# Altium footprint library R_C_L_D.PcbLib: 51 footprints (part 2 of 4)
Each footprint in its own frame and in the unit in brackets; x right, y up, seen from the top. Pads: shape width x height; smd on the part's side, far side on the other; paste and mask are expansions set on the pad; w line width, h text height; cw(c..) or ccw(c..) is an arc to the next point about the centre after c.
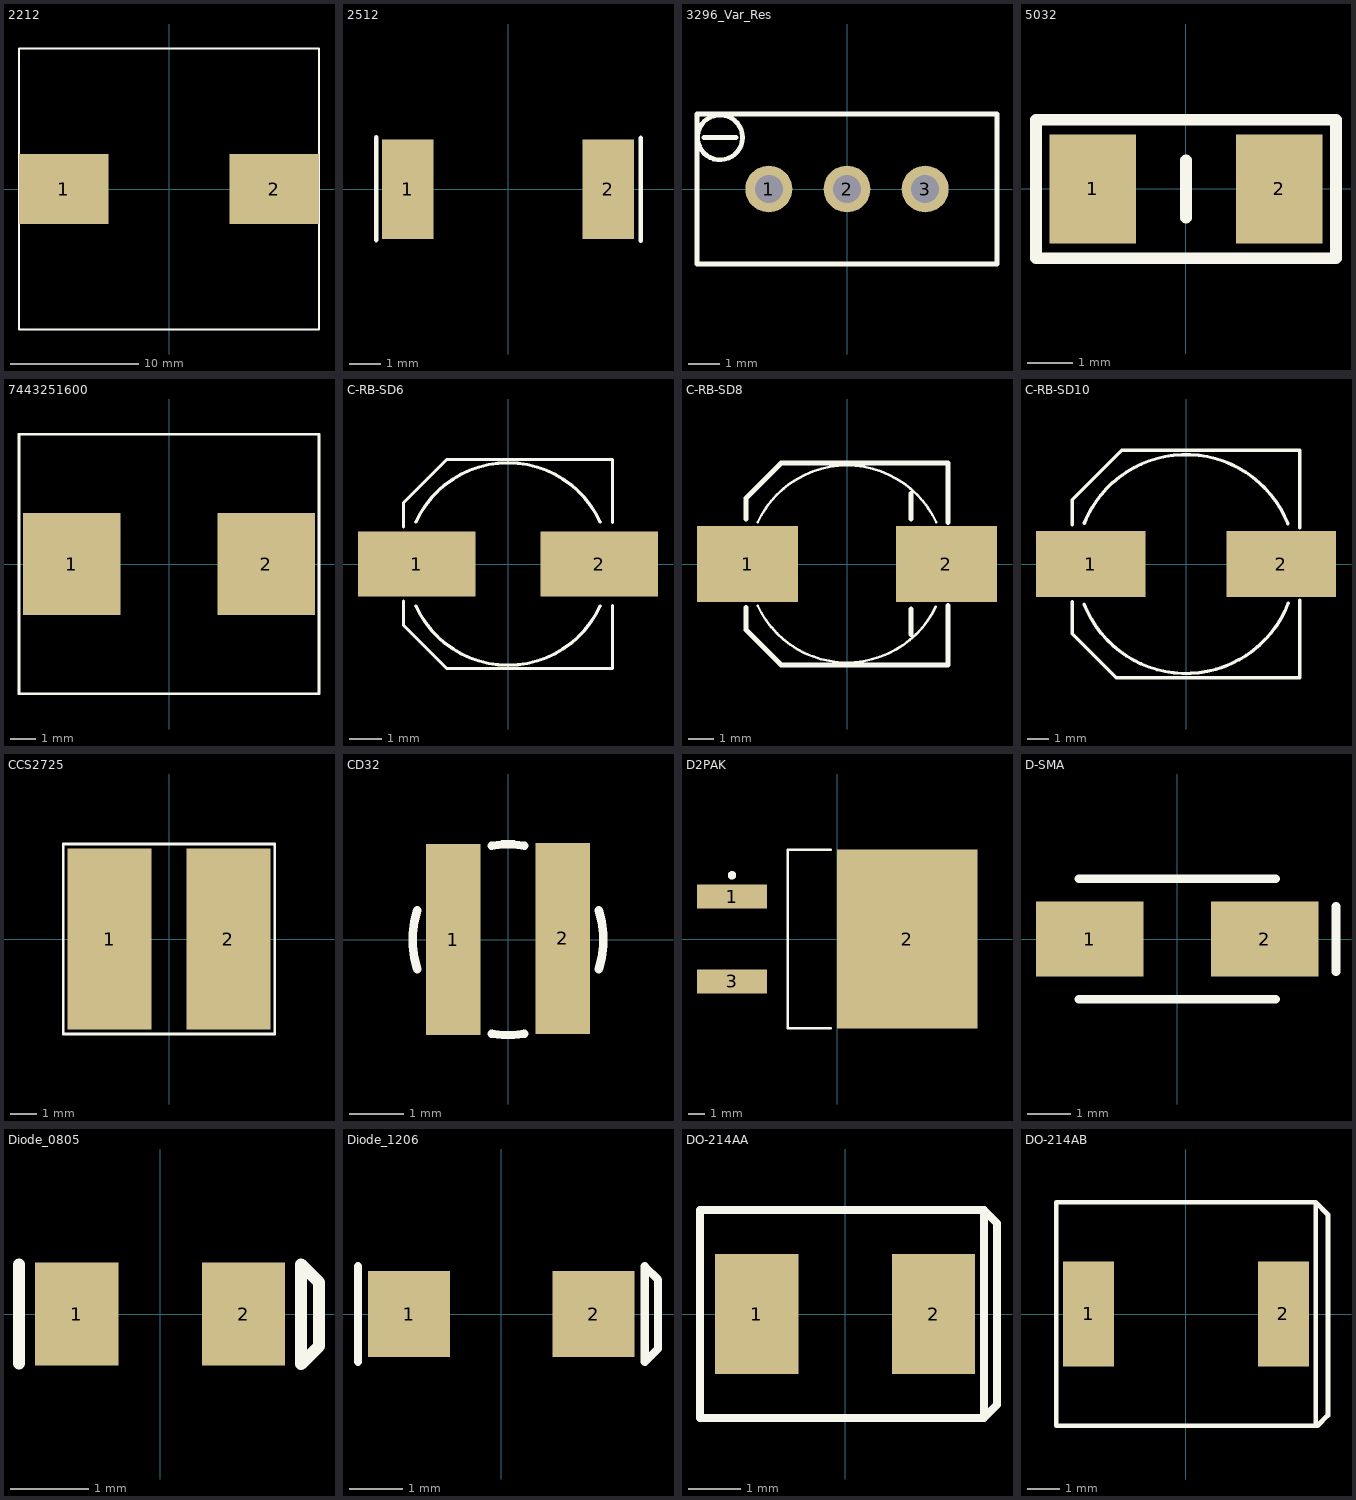
[diagram p1: the footprints below, top view; thin cyan lines are the x and y axes]

## 2212 [mm] "[22*22]mm"
pads (2):
  rect 7x5.5 smd: 1(-8.25,0) 2(8.25,0)
Top Overlay:
  lines w0.152: -11.75,-11 -11.75,11 11.75,11 11.75,-11 -11.75,-11

## 2512 [mil] "[8.13*3.2]mm"
pads (2):
  rect 65x126 smd: 1(-127,0) 2(127,0)
Top Overlay:
  lines w6: -167,-64 -167,66 ; 168,-65 168,65

## 3296_Var_Res [mm]
pads (3):
  round 1.5 hole 0.9: 1(-2.5,0) 2(0,0) 3(2.5,0)
Top Overlay:
  circle w0.152: c-4.064,1.651 r0.718
  lines w0.152: -4.572,1.651 -3.556,1.651 ; -4.8,-2.4 4.8,-2.4 4.8,2.4 -4.8,2.4 -4.8,-2.4

## 5032 [mm] "Crystal"
pads (2):
  rect 1.9x2.4 smd: 1(-2.05,0) 2(2.05,0)
Top Overlay:
  lines w0.254: 0,-0.635 0,0.635 ; -3.302,-1.524 3.302,-1.524 3.302,1.524 -3.302,1.524 -3.302,1.27 -3.302,-1.524

## 7443251600 [mm] "一体成型电感"
height 4
pads (2):
  rect 3.85x4 smd mask+0.07: 1(-3.825,0) 2(3.825,0)
Top Overlay:
  lines w0.102: -5.9,-5.1 -5.9,5.1 5.9,5.1 5.9,-5.1 -5.9,-5.1

## C-RB-SD6 [mm] "贴片铝电解"
height 7
pads (2):
  rect 3.6x2 smd: 1(-2.794,0) 2(2.794,0)
Top Overlay:
  lines w0.1: -3.2,-1.143 -3.2,-1.88 -1.88,-3.2 3.2,-3.2 3.2,-1.27 ; -3.2,1.143 -3.2,1.88 -1.88,3.2 3.2,3.2 3.2,1.27 ; -2.822,-1.283 ccw(c0,0) 2.822,-1.283 ; -2.822,1.283 cw(c0,0) 2.822,1.283

## C-RB-SD8 [mm] "贴片铝电解"
height 10.2
pads (2):
  rect 4x3 smd: 1(-3.937,0) 2(3.937,0)
Top Overlay:
  lines w0.1: -3.539,-1.643 ccw(c0,0) 3.516,-1.693 ; -3.539,1.643 cw(c0,0) 3.539,1.643
  lines w0.2: -4,-1.714 -4,-2.604 -2.604,-4 4,-4 4,-1.651 ; -4,1.778 -4,2.604 -2.604,4 4,4 4,1.651 ; 2.54,-2.794 2.54,-1.778 ; 2.54,1.778 2.54,2.794

## C-RB-SD10 [mm] "贴片铝电解"
height 10.2
pads (2):
  rect 5x3 smd: 1(-4.35,0) 2(4.35,0)
Top Overlay:
  lines w0.152: -5.2,-1.714 -5.2,-3.182 -3.182,-5.2 5.2,-5.2 5.2,-1.651 ; -5.2,1.778 -5.2,2.928 -2.928,5.2 5.2,5.2 5.2,1.651 ; -4.655,-1.826 ccw(c0,0) 4.667,-1.795 ; -4.646,1.848 cw(c0,0) 4.651,1.836

## CCS2725 [mm] "大功率电阻"
height 3
pads (2):
  rect 3.18x6.86 smd mask+0.07: 1(-2.25,0) 2(2.25,0)
Top Overlay:
  lines w0.102: -4,-3.6 -4,3.6 4,3.6 4,-3.6 -4,-3.6

## CD32 [mm] "3*3.5]mm"
height 2
pads (2):
  rect 1x3.5 smd: 1(-1,0) 2(1,0.025)
Top Overlay:
  lines w0.152: -1.664,-0.541 cw(c0,0) -1.664,0.541 ; -0.304,-1.723 ccw(c0,0) 0.304,-1.723 ; -0.304,1.723 cw(c0,0) 0.304,1.723 ; 1.664,-0.541 ccw(c0,0) 1.664,0.541

## D2PAK [mm] "贴片场管"
height 4.83
pads (3):
  rect 4.2x1.45 smd: 1(-6.3,2.54) 3(-6.3,-2.54)
  rect 8.4x10.75 smd: 2(4.2,0)
Top Overlay:
  circle w0.25: c-6.3,3.815 r0.125
  lines w0.152: -0.4,-5.35 -2.95,-5.35 -2.95,5.35 -0.4,5.35

## D-SMA [mm] "贴片二极管"
height 2.54
pads (2):
  rect 2.5x1.75 smd: 1(-2.032,0) 2(2.032,0)
Top Overlay:
  lines w0.2: -2.286,-1.397 2.286,-1.397 ; -2.286,1.397 2.286,1.397 ; 3.683,-0.762 3.683,0.762

## Diode_0805 [mil] "0805"
height 27.56
pads (2):
  rect 42x52 smd: 1(-42,0) 2(42,0)
Top Overlay:
  lines w5.98: -71,-25 -71,25 ; 71,-25.17 71,25 ; 80,-16.17 80,16
  lines w6: 71,-25.17 80,-16.17 ; 71,25 80,16

## Diode_1206 [mil] "[4.95*1.6]mm"
pads (2):
  rect 60x63 smd: 1(-67.5,0) 2(67.5,0)
Top Overlay:
  lines w6: -105,-35 -105,35 ; 105,-35 105,35 ; 105.13,-34.95 114.63,-25.45 114.63,25.14 105.25,34.52 105.13,34.52

## DO-214AA [mm]
pads (2):
  rect 1.6x2.3 smd: 1(-1.7,0) 2(1.7,0)
Top Overlay:
  lines w0.152: 2.667,-2 2.667,2 ; 2.667,-2 -2.794,-2 -2.794,2 2.667,2 ; 2.667,-2 2.921,-1.746 2.921,1.746 2.667,2

## DO-214AB [mm]
pads (2):
  rect 1.6x3.3 smd: 1(-3.05,0) 2(3.05,0)
Top Overlay:
  lines w0.152: 4.064,3.5 -4.064,3.5 -4.064,-3.5 3.005,-3.5 4.12,-3.5 4.445,-3.175 4.445,3.119 4.067,3.497 4.067,-3.5